# Altium schematic symbol library Schlib3.SchLib: 1 symbol
Pins are listed as number, name and electrical type; pins without a type are passive.

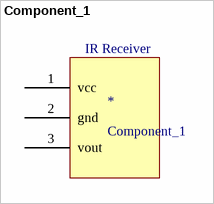
[diagram p0: symbol Component_1]

## Component_1
designator *
footprint IR Receiver
pins: 1 vcc, 2 gnd, 3 vout
text: IR Receiver